# EAGLE library part NODEMCU (library NodeMCU)
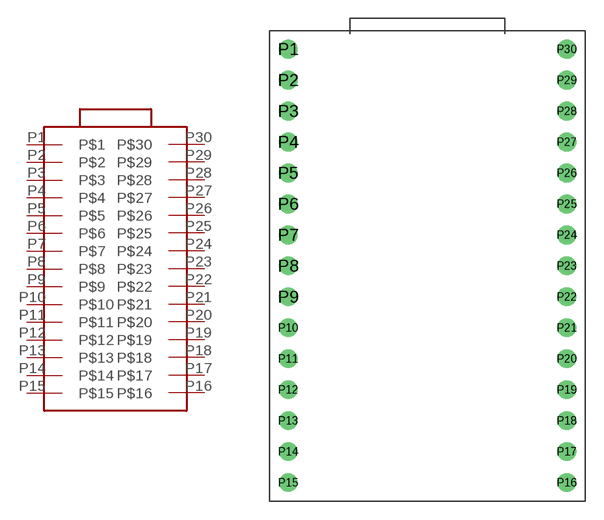
[diagram p0: symbol with the pads of DIP; footprint DIP]

Designator prefix -

## NODEMCU  [DIP]
P1  P$1
P2  P$2
P3  P$3
P4  P$4
P5  P$5
P6  P$6
P7  P$7
P8  P$8
P9  P$9
P10  P$10
P11  P$11
P12  P$12
P13  P$13
P14  P$14
P15  P$15
P16  P$16
P17  P$17
P18  P$18
P19  P$19
P20  P$20
P21  P$21
P22  P$22
P23  P$23
P24  P$24
P25  P$25
P26  P$26
P27  P$27
P28  P$28
P29  P$29
P30  P$30

## Footprint DIP (pad centres in mm)
drill 1.016: P1 1.27,36.83; P2 1.27,34.29; P3 1.27,31.75; P4 1.27,29.21; P5 1.27,26.67; P6 1.27,24.13; P7 1.27,21.59; P8 1.27,19.05; P9 1.27,16.51; P10 1.27,13.97; P11 1.27,11.43; P12 1.27,8.89; P13 1.27,6.35; P14 1.27,3.81; P15 1.27,1.27; P16 24.13,1.27; P17 24.13,3.81; P18 24.13,6.35; P19 24.13,8.89; P20 24.13,11.43; P21 24.13,13.97; P22 24.13,16.51; P23 24.13,19.05; P24 24.13,21.59; P25 24.13,24.13; P26 24.13,26.67; P27 24.13,29.21; P28 24.13,31.75; P29 24.13,34.29; P30 24.13,36.83